# Altium footprint library KOA_Resistors.PcbLib: 4 footprints
Each footprint in its own frame and in the unit in brackets; x right, y up, seen from the top. Pads: shape width x height; smd on the part's side, far side on the other; paste and mask are expansions set on the pad; w line width, h text height; cw(c..) or ccw(c..) is an arc to the next point about the centre after c.
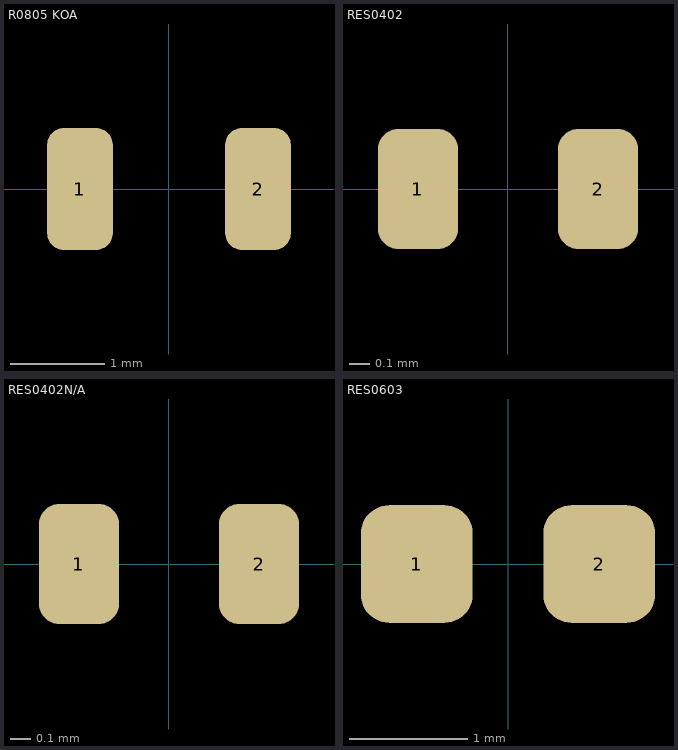
[diagram p0: the footprints below, top view; thin cyan lines are the x and y axes]

## R0805 KOA [mm] "R0805 KOA"
pads (2):
  rrect50% 0.7x1.3 smd: 1(-0.95,0) 2(0.95,0)
3D body "RES0805.stp": height 0.5, standoff 0, extent -1,-0.63 1,0.62

## RES0402 [mm]
pads (2):
  rrect50% 0.4x0.6 smd: 1(-0.45,0) 2(0.45,0)
3D body "RES0402.stp": height 0.3, standoff 0, extent -0.5,-0.25 0.5,0.25

## RES0402N/A [mm] "KOA N.A"
pads (2):
  rrect50% 0.4x0.6 smd: 1(-0.45,0) 2(0.45,0)

## RES0603 [mm] "Chip Resistor, 2-Leads, Body 1.6x0.8mm, IPC Medium Density"
height 0.5
pads (2):
  rrect50% 0.95x1 smd: 1(-0.775,0) 2(0.775,0)
3D body "RES0603.stp": height 0.45, standoff 0, extent -0.8,-0.4 0.8,0.4